# Altium schematic symbol library FDY1002PZ.SchLib: 1 symbol
Pins are listed as number, name and electrical type; pins without a type are passive.

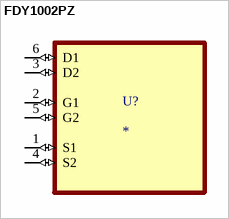
[diagram p0: symbol FDY1002PZ]

## FDY1002PZ
designator U?
Mosfet Array 2 P-Channel (Dual) 20V 830mA 446mW Surface Mount SOT-563F; MP: FDY1002PZ; MF: ON Semiconductor; Value: *; Check_prices: https://www.snapeda.com/parts/FDY1002PZ/Onsemi/view-part/?ref=eda; Availability: In Stock; Price: None; Package: SOT-563-6 ON Semiconductor; SnapEDA_Link: https://www.snapeda.com/parts/FDY1002PZ/Onsemi/view-part/?ref=snap; Purchase-URL: https://pricing.snapeda.com/search/part/FDY1002PZ/?ref=eda
footprint SOT50P160X60-6N
pins: 1 S1 (io), 2 G1 (io), 3 D2 (io), 4 S2 (io), 5 G2 (io), 6 D1 (io)